# EAGLE library part 87340-14 (library con-molex-milli-grid)
RECEPTACAL
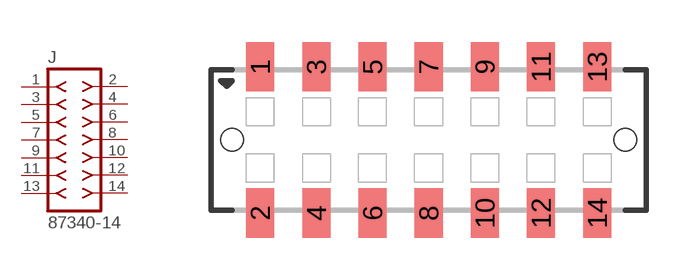
[diagram p231: symbol with the pads of 87340-14; footprint 87340-14]

Designator prefix J

## 87340-14  [87340-14]
1  1  pas
2  2  pas
3  3  pas
4  4  pas
5  5  pas
6  6  pas
7  7  pas
8  8  pas
9  9  pas
10  10  pas
11  11  pas
12  12  pas
13  13  pas
14  14  pas

## Footprint 87340-14 (pad centres in mm)
RECEPTACAL SMD Dual Row, Vertical, Low Profile
smd 1 x 1.75: 1 -6,2.6; 2 -6,-2.6; 3 -4,2.6; 4 -4,-2.6; 5 -2,2.6; 6 -2,-2.6; 7 0,2.6; 8 0,-2.6; 9 2,2.6; 10 2,-2.6; 11 4,2.6; 12 4,-2.6; 13 6,2.6; 14 6,-2.6
hole 0.8 at -7,0
hole 0.8 at 7,0